# EAGLE library part 16F1503 (library !stavebnice03)
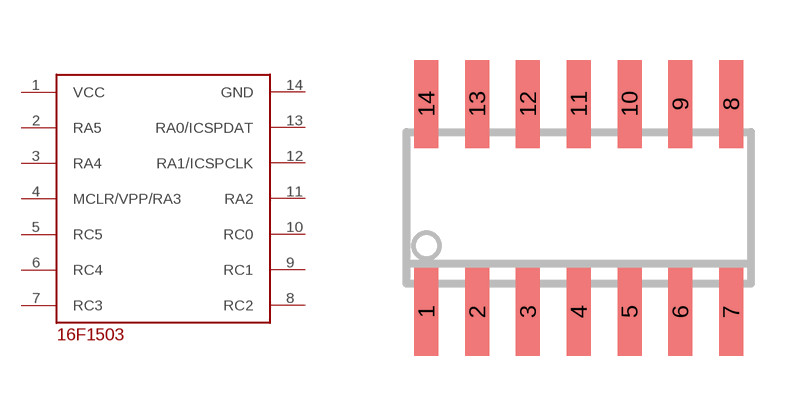
[diagram p0: symbol with the pads of 16F1503; footprint 16F1503]

Designator prefix -

## 16F1503  [16F1503]
1  VCC  pwr
2  RA5
3  RA4
4  MCLR/VPP/RA3
5  RC5
6  RC4
7  RC3
8  RC2
9  RC1
10  RC0
11  RA2
12  RA1/ICSPCLK
13  RA0/ICSPDAT
14  GND  pwr

## Footprint 16F1503 (pad centres in mm)
smd 0.6 x 2.2: 1 -3.81,-2.6; 2 -2.54,-2.6; 3 -1.27,-2.6; 4 0,-2.6; 5 1.27,-2.6; 6 2.54,-2.6; 7 3.81,-2.6; 8 3.81,2.6; 9 2.54,2.6; 10 1.27,2.6; 11 0,2.6; 12 -1.27,2.6; 13 -2.54,2.6; 14 -3.81,2.6